# Altium footprint library MP2016.PcbLib: 1 footprints
Each footprint in its own frame and in the unit in brackets; x right, y up, seen from the top. Pads: shape width x height; smd on the part's side, far side on the other; paste and mask are expansions set on the pad; w line width, h text height; cw(c..) or ccw(c..) is an arc to the next point about the centre after c.
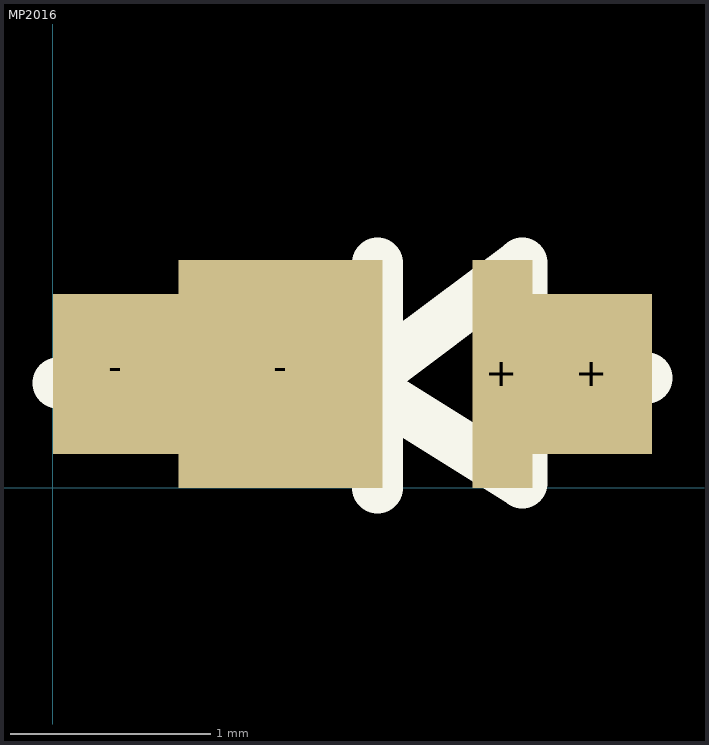
[diagram p0: the footprint, top view; thin cyan lines are the x and y axes]

## MP2016 [mm] "LED"
height 0.5
pads (4):
  rect 0.3x1.14 smd: +(2.25,0.57)
  rect 0.6x0.8 smd: +(2.7,0.57)
  rect 0.63x0.8 smd: -(0.315,0.57)
  rect 1.02x1.14 smd: -(1.14,0.57)
Top Overlay:
  lines w0.254: 0.025,0.525 1.55,0.525 ; 1.625,0 1.625,1.125 ; 2.975,0.55 2.35,0.55 2.35,1.125 ; 1.55,0.525 2.35,1.125 ; 1.55,0.525 2.35,0.025 2.35,1.125
3D body: height 0.5, standoff 0, extent -0.102,-0.102 3.102,1.242